# Altium footprint library Voeding.PcbLib: 9 footprints
Each footprint in its own frame and in the unit in brackets; x right, y up, seen from the top. Pads: shape width x height; smd on the part's side, far side on the other; paste and mask are expansions set on the pad; w line width, h text height; cw(c..) or ccw(c..) is an arc to the next point about the centre after c.
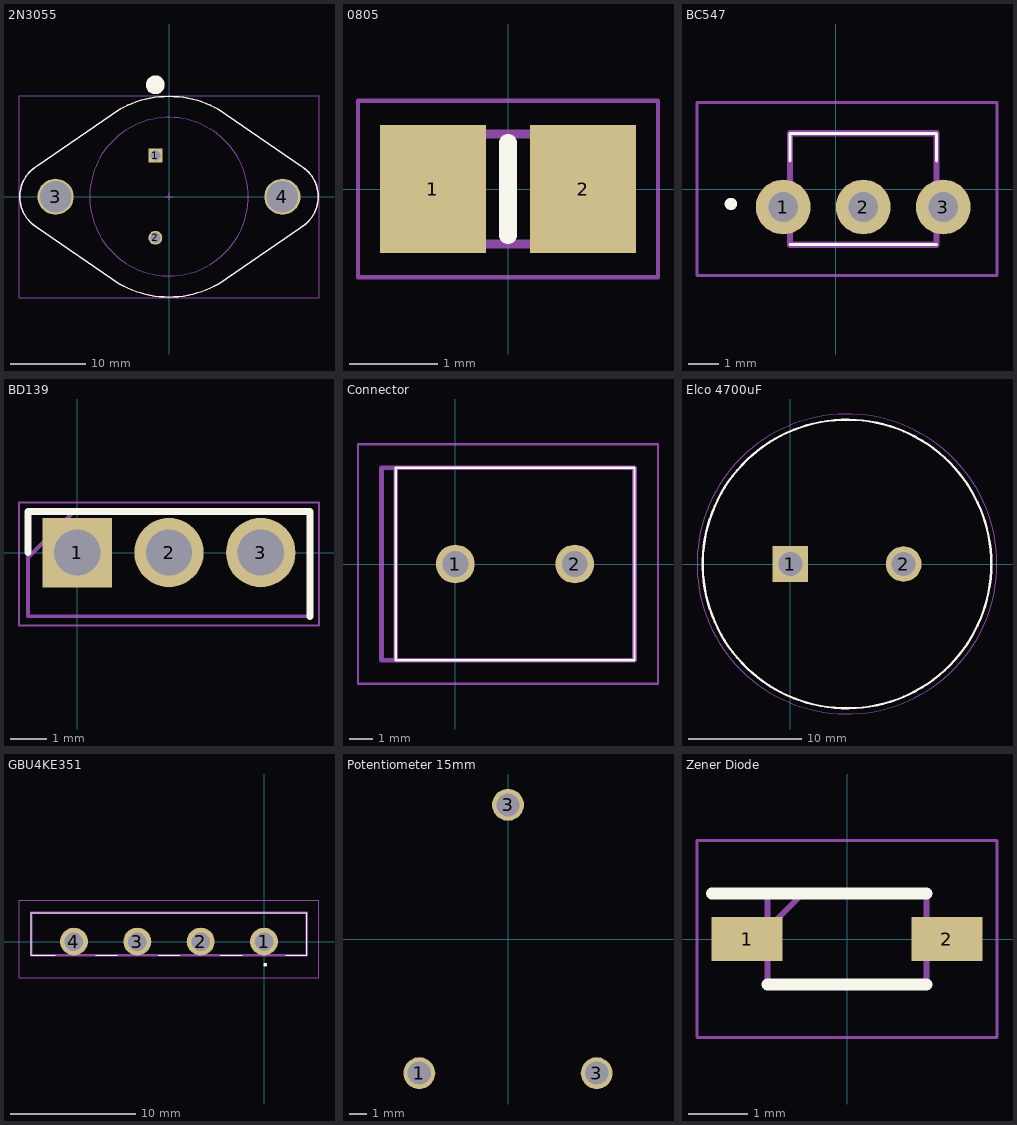
[diagram p0: the footprints below, top view; thin cyan lines are the x and y axes]

## 2N3055 [mm] "TO-204, Pin Spacing 10.92mm, Lead Dia. 1.09 mm (max)"
height 8.51
pads (4):
  rect 1.85x1.85 hole 1.35: 1(-1.815,5.46)
  round 1.85 hole 1.35: 2(-1.815,-5.46)
  round 4.8 hole 4.19 mask+0.102: 3(-15.075,0) 4(15.075,0)
Top Overlay:
  circle w1.25: c-1.815,14.875 r0.625
  lines w0.2: -19.845,0 cw(c-15.075,0) -17.46,4.131 -6.668,11.548 cw(c0,0) 6.667,11.548 17.46,4.131 cw(c15.075,0) 19.845,0 cw(c15.075,0) 17.46,-4.131 6.668,-11.548 cw(c0,0) -6.667,-11.548 -17.46,-4.131 cw(c-15.075,0) -19.845,0
Mechanical 13:
  circle w0.1: c0,0 r10.54
  lines w0.1: -17.981,-3.791 -6.475,-11.681 ; -17.811,3.907 -6.475,11.681 ; -17.46,-4.131 cw(c-15.075,0) -19.845,0 cw(c-15.075,0) -17.46,4.131 ; -6.667,-11.548 ccw(c0,0) 6.668,-11.548 ; -6.668,11.548 cw(c0,0) 6.667,11.548 ; 6.475,-11.681 17.811,-3.907 ; 6.475,11.681 17.981,3.791 ; 17.46,-4.131 ccw(c15.075,0) 19.845,0 ccw(c15.075,0) 17.46,4.131 ; 12.98,0 ccw(c15.075,0) 17.17,0 ccw(c15.075,0) 12.98,0
Mechanical 15:
  lines w0.05: -19.939,-13.45 -19.939,13.45 19.939,13.45 19.939,-13.45 -19.939,-13.45
  lines w0.1: -0.5,0 0.5,0 ; 0,-0.5 0,0.5
3D body: height 1.77, standoff 0, extent -19.844,-13.334 19.845,-0.001
3D body: height 1.77, standoff 0, extent -19.845,0.001 19.844,13.334
3D body: height 8.51, standoff 1.77, extent -10.539,-10.539 10.54,10.54

## 0805 [mm]
pads (2):
  rect 1.2x1.45 smd: 1(-0.85,0) 2(0.85,0)
Top Overlay:
  lines w0.2: 0,-0.525 0,0.525
Mechanical 13:
  lines w0.1: -1,-0.625 1,-0.625 1,0.625 -1,0.625 -1,-0.625
Mechanical 15:
  lines w0.05: -1.7,-1 1.7,-1 1.7,1 -1.7,1 -1.7,-1
3D body "ACML-0805-500-T.stp": height 1.05, standoff 0, extent -1,-0.625 1,0.625

## BC547 [mm]
pads (3):
  round 1.778 hole 0.96: 1(-1.7,-0.585) 2(0.9,-0.585) 3(3.5,-0.585)
Top Overlay:
  lines w0.1: -1.48,-1.81 3.28,-1.81 ; -1.48,0.915 -1.48,1.81 3.28,1.81 3.28,0.915
  lines w0.2: -3.4,-0.585 cw(c-3.4,-0.485) -3.4,-0.385 cw(c-3.4,-0.485) -3.4,-0.585
Mechanical 13:
  lines w0.2: -1.48,-1.81 3.28,-1.81 3.28,1.81 -1.48,1.81 -1.48,-1.81
Mechanical 15:
  lines w0.1: -4.5,-2.81 5.247,-2.81 5.247,2.81 -4.5,2.81 -4.5,-2.81
3D body "BC557ATA.stp": height 8.67, standoff -13.11, extent -2.2,-2.42 3.96,1.71

## BD139 [mm]
pads (3):
  rect 1.92x1.92 hole 1.28: 1(0,0)
  round 1.92 hole 1.28: 2(2.54,0) 3(5.08,0)
Top Overlay:
  lines w0.2: -1.36,0 -1.36,1.135 6.44,1.135 6.44,-1.765
Mechanical 13:
  lines w0.1: -1.36,-0.135 -0.09,1.135 ; -1.36,-1.765 6.44,-1.765 6.44,1.135 -1.36,1.135 -1.36,-1.765
Mechanical 15:
  lines w0.05: -1.61,-2.015 6.69,-2.015 6.69,1.385 -1.61,1.385 -1.61,-2.015
3D body "BD139-10.stp": height 13.08, standoff -12.72, extent -1.16,-1.27 6.24,1.13

## Connector [mm]
pads (2):
  round 1.65 hole 1.1: 1(0,0) 2(5.08,0)
Top Overlay:
  lines w0.1: -2.54,-4.1 7.62,-4.1 7.62,4.1 -2.54,4.1 -2.54,-4.1
Mechanical 13:
  lines w0.2: -2.54,-4.1 7.62,-4.1 7.62,4.1 -2.54,4.1 ; -2.54,-4.1 -2.54,4.1 ; -2.54,-4.1 -2.54,4.1 ; -2.54,-4.1 -3.14,-4.1 -3.14,4.1 -2.54,4.1
Mechanical 15:
  lines w0.1: -4.14,-5.1 8.62,-5.1 8.62,5.1 -4.14,5.1 -4.14,-5.1
3D body "282837-2.stp": height 9.84, standoff -3.66, extent -2.51,-4.11 8.25,4.09

## Elco 4700uF [mm]
pads (2):
  rect 3.15x3.15 hole 2.1: 1(0,0)
  round 3.15 hole 2.1: 2(10,0)
Top Overlay:
  circle w0.2: c5,0 r12.75
Mechanical 13:
  circle w0.1: c5,0 r12.75
Mechanical 15:
  circle w0.05: c5,0 r13.25
3D body "SLPX472M050C3P3.stp": height 32, standoff -10, extent -8,-13 18,13

## GBU4KE351 [mm] "Bridge Rectifier"
pads (4):
  round 2.235 hole 1.49: 1(0,0) 2(-5.08,0) 3(-10.16,0) 4(-15.24,0)
Top Overlay:
  lines w0.1: -18.645,-1.108 -18.645,2.322 ; -18.645,-1.108 -18.645,2.322 ; -18.645,-1.108 -16.75,-1.108 -18.645,-1.108 ; -18.645,2.322 3.405,2.322 ; -18.645,2.322 3.405,2.322 ; 3.405,-1.108 3.405,2.322 ; 3.405,-1.108 3.405,2.322 ; 3.405,-1.108 1.75,-1.108 3.405,-1.108 ; -13.5,-1.108 -11.75,-1.108 -13.5,-1.108 ; -8.5,-1.108 -6.75,-1.108 -8.5,-1.108 ; -3.5,-1.108 -1.75,-1.108 -3.5,-1.108
  lines w0.2: 0.1,-1.9 cw(c0.1,-1.85) 0.1,-1.8 ; 0.1,-1.9 ccw(c0.1,-1.85) 0.1,-1.8 ; 0.1,-1.9 cw(c0.1,-1.85) 0.1,-1.8
Mechanical 13:
  lines w0.2: -18.645,-1.108 -18.645,2.322 3.405,2.322 3.405,-1.108 -18.645,-1.108
Mechanical 15:
  lines w0.1: -19.645,-2.9 4.405,-2.9 4.405,3.322 -19.645,3.322 -19.645,-2.9
3D body "GBU4K-E3_51.stp": height 18.9, standoff -5, extent -18.645,-1.108 3.405,2.322

## Potentiometer 15mm [mil]
pads (3):
  round 70 hole 51.18: 1(-195,-295) 3(0,295) 3(195,-295)
3D body: height 10, standoff 0, extent -320,-348.75 320,345

## Zener Diode [mm]
pads (2):
  rect 1.2x0.75 smd: 1(-1.7,0) 2(1.7,0)
Top Overlay:
  lines w0.2: -2.3,0.775 1.35,0.775 ; -1.35,-0.775 1.35,-0.775
Mechanical 13:
  lines w0.1: -1.35,0.175 -0.75,0.775 ; -1.35,-0.775 1.35,-0.775 1.35,0.775 -1.35,0.775 -1.35,-0.775
Mechanical 15:
  lines w0.05: -2.55,-1.675 2.55,-1.675 2.55,1.675 -2.55,1.675 -2.55,-1.675
3D body "MMSZ5245B-7-F.stp": height 1, standoff 0, extent -1.85,-0.89 1.85,0.89